# Altium footprint library Diodes.PcbLib: 1 footprints
Each footprint in its own frame and in the unit in brackets; x right, y up, seen from the top. Pads: shape width x height; smd on the part's side, far side on the other; paste and mask are expansions set on the pad; w line width, h text height; cw(c..) or ccw(c..) is an arc to the next point about the centre after c.
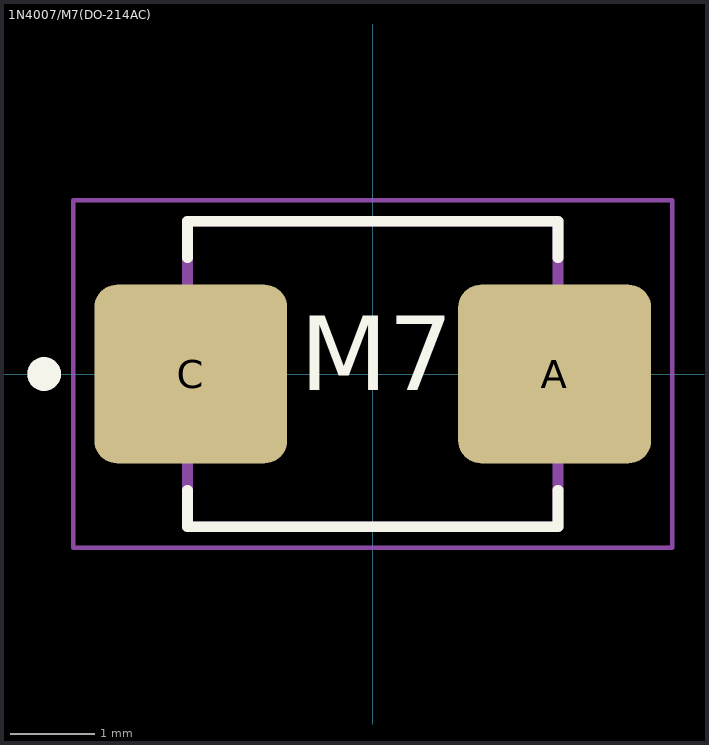
[diagram p0: the footprint, top view; thin cyan lines are the x and y axes]

## 1N4007/M7(DO-214AC) [mm] "DIOM5336X265N"
pads (2):
  rrect25% 2.29x2.12 smd: A(2.16,0) C(-2.16,0)
Top Overlay:
  circle w0.2: c-3.9,0 r0.1
  lines w0.127: -2.2,-1.38 -2.2,-1.813 2.2,-1.813 2.2,-1.38 ; -2.2,1.38 -2.2,1.813 2.2,1.813 2.2,1.38
  text "M7" at -0.864,-0.483 h1.52
Mechanical 13:
  circle w0.2: c-3.9,0 r0.1
  lines w0.127: -2.2,-1.813 2.2,-1.813 2.2,1.813 -2.2,1.813 -2.2,-1.813
Mechanical 15:
  lines w0.05: -3.555,-2.063 3.555,-2.063 3.555,2.063 -3.555,2.063 -3.555,-2.063
3D body "SS24--3DModel-STEP-56544.STEP": height 2.65, standoff 0, extent -2.67,-1.813 2.67,1.812